# Altium schematic symbol library Capacitors-0805-Ceramic.SchLib: 4 symbols
Pins are listed as number, name and electrical type; pins without a type are passive.

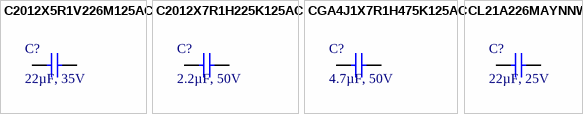
[diagram p0: symbols C2012X5R1V226M125AC to CL21A226MAYNNWE]

## C2012X5R1V226M125AC
designator C?, comment 22µF, 35V
CAP CER 22UF 35V X5R 0805; Manufacturer: TDK; Manufacturer Part Number: C2012X5R1V226M125AC; Manufacturer Lifecycle Status: PRODUCTION; Dielectric Material: Ceramic; Tolerance: 20%; Supplier: DigiKey; Supplier Part Number: 445-14428-1-ND; RoHS: Compliant; Category: Ceramic Capacitors; Stock: 581767; Pricing: 1=0.57, 10=0.348, 50=0.2628, 100=0.2364, 500=0.19204, 1000=0.17833 (USD); Value: 22µF; Case/Package: 0805; Case Code (Imperial): 0805; Case Code (Metric): 2012; China RoHS: Compliant; Dielectric: X5R; Height: 1.25mm; Lead Free: Lead Free; Length: 2mm; Lifecycle Status: Production; Material: Ceramic; Max Length: 2.2mm; Max Operating Temperature: 85°C; Max Width: 1.45mm; Min Length: 1.8mm; Min Operating Temperature: -55°C; Min Width: 1.05mm; Mounting Technology: Surface Mount; Number of Terminals: 2; REACH SVHC: Yes; Schedule B: 8532240020, 8532240020|8532240020|8532240020|8532240020|8532240020; Termination: SMD/SMT; Voltage Rating: 35V; Voltage Rating (DC): 35V; Weight: 5.499807mg; Width: 1.25mm; ComponentLink1URL: https://datasheet.octopart.com:443/C2012X5R1V226M125AC-TDK-datasheet-175423548.pdf?src-supplier=TME; ComponentLink1Description: https://datasheet.octopart.com:443/C2012X5R1V226M125AC-TDK-datasheet-175423548.pdf?src-supplier=TME; ComponentLink2URL: https://datasheet.octopart.com:443/C2012X5R1V226M125AC-TDK-datasheet-182135025.pdf?src-supplier=TME; ComponentLink2Description: https://datasheet.octopart.com:443/C2012X5R1V226M125AC-TDK-datasheet-182135025.pdf?src-supplier=TME; ComponentLink3URL: https://datasheet.octopart.com:443/C2012X5R1V226M125AC-TDK-datasheet-159617022.pdf?src-supplier=TME; ComponentLink3Description: https://datasheet.octopart.com:443/C2012X5R1V226M125AC-TDK-datasheet-159617022.pdf?src-supplier=TME; ComponentLink4URL: https://datasheet.octopart.com:443/C2012X5R1V226M125AC-TDK-datasheet-68298673.pdf?src-supplier=Upverter; ComponentLink4Description: https://datasheet.octopart.com:443/C2012X5R1V226M125AC-TDK-datasheet-68298673.pdf?src-supplier=Upverter; ComponentLink5URL: https://datasheet.octopart.com:443/C2012X5R1V226M125AC-TDK-datasheet-151546523.pdf?src-supplier=ODG+(Origin+Data+Global); ComponentLink5Description: https://datasheet.octopart.com:443/C2012X5R1V226M125AC-TDK-datasheet-151546523.pdf?src-supplier=ODG+(Origin+Data+Global); ComponentLink6URL: https://datasheet.octopart.com:443/C2012X5R1V226M125AC-TDK-datasheet-82475248.pdf?src-supplier=Newark; ComponentLink6Description: https://datasheet.octopart.com:443/C2012X5R1V226M125AC-TDK-datasheet-82475248.pdf?src-supplier=Newark; ComponentLink7URL: https://datasheet.octopart.com/C2012X5R1V226M125AC-TDK-datasheet-41194876.pdf; ComponentLink7Description: https://datasheet.octopart.com/C2012X5R1V226M125AC-TDK-datasheet-41194876.pdf; ComponentLink8URL: https://datasheet.octopart.com/C-Series-Ceramic-Chip-Capacitors-TDK-datasheet-family-84.pdf; ComponentLink8Description: https://datasheet.octopart.com/C-Series-Ceramic-Chip-Capacitors-TDK-datasheet-family-84.pdf; ComponentLink9URL: https://datasheet.octopart.com:443/C2012X5R1V226M125AC-TDK-datasheet-158983655.pdf?src-supplier=Farnell; ComponentLink9Description: https://datasheet.octopart.com:443/C2012X5R1V226M125AC-TDK-datasheet-158983655.pdf?src-supplier=Farnell; ComponentLink10URL: https://datasheet.octopart.com:443/C2012X5R1V226M125AC-TDK-datasheet-25352837.pdf?src-supplier=Future+Electronics; ComponentLink10Description: https://datasheet.octopart.com:443/C2012X5R1V226M125AC-TDK-datasheet-25352837.pdf?src-supplier=Future+Electronics; ComponentLink11URL: https://datasheet.octopart.com:443/C2012X5R1V226M125AC-TDK-datasheet-23766614.pdf?src-supplier=Future+Electronics; ComponentLink11Description: https://datasheet.octopart.com:443/C2012X5R1V226M125AC-TDK-datasheet-23766614.pdf?src-supplier=Future+Electronics; ComponentLink12URL: http://sigma.octopart.com:80/rohs_certificate/C-Series-Ceramic-Chip-Capacitors-TDK-family-108.pdf?src-supplier=Compliance+Statements; ComponentLink12Description: http://sigma.octopart.com:80/rohs_certificate/C-Series-Ceramic-Chip-Capacitors-TDK-family-108.pdf?src-supplier=Compliance+Statements
footprint CAP-CER-0805
pins: 1, 2

## C2012X7R1H225K125AC
designator C?, comment 2.2µF, 50V
CAP CER 2.2UF 50V X7R 0805; Manufacturer: TDK; Manufacturer Part Number: C2012X7R1H225K125AC; Manufacturer Lifecycle Status: PRODUCTION; Description: 50V 2.2uF X7R 卤10% 0805 Multilayer Ceramic Capacitors MLCC - SMD/SMT ROHS; Dielectric Material: Ceramic; Tolerance: 10%; Supplier: DigiKey; Supplier Part Number: 445-5968-1-ND; RoHS: Compliant; Category: Ceramic Capacitors; Stock: 753294; Pricing: 1=0.48, 10=0.293, 50=0.2188, 100=0.1961, 500=0.15784, 1000=0.14601 (USD); Value: 2.2µF; Case/Package: 0805; Case Code (Imperial): 0805; Case Code (Metric): 2012; China RoHS: Compliant; Composition: Ceramic; Contact Plating: Tin; Depth: 1.25mm; Dielectric: X7R; Height: 1.25mm; Lead Free: Lead Free; Length: 2mm; Lifecycle Status: Production; Material: Ceramic; Max Length: 2.2mm; Max Operating Temperature: 125°C; Max Width: 1.45mm; Min Length: 1.8mm; Min Operating Temperature: -55°C; Min Width: 1.05mm; Mounting Technology: Surface Mount; Number of Terminals: 2; Radiation Hardening: No; REACH SVHC: Yes; Schedule B: 8532240020, 8532240020|8532240020|8532240020|8532240020|8532240020|8532240020|8532240020|8532240020|8532240020|8532240020|8532240020|8532240020|8532240020|8532240020|8532240020|8532240020|8532240020|8532240020|8532240020|8532240020|8532240020|8532240020|8532240020|85; Termination: SMD/SMT; Voltage: 50V; Voltage Rating: 50V; Voltage Rating (DC): 50V; Weight: 5.499807mg; Width: 1.25mm; ComponentLink1URL: https://datasheet.octopart.com:443/C2012X7R1H225K125AC-TDK-datasheet-175423548.pdf?src-supplier=TME; ComponentLink1Description: https://datasheet.octopart.com:443/C2012X7R1H225K125AC-TDK-datasheet-175423548.pdf?src-supplier=TME; ComponentLink2URL: https://datasheet.octopart.com:443/C2012X7R1H225K125AC-TDK-datasheet-182135025.pdf?src-supplier=TME; ComponentLink2Description: https://datasheet.octopart.com:443/C2012X7R1H225K125AC-TDK-datasheet-182135025.pdf?src-supplier=TME; ComponentLink3URL: https://datasheet.octopart.com:443/C2012X7R1H225K125AC-TDK-datasheet-159617022.pdf?src-supplier=TME; ComponentLink3Description: https://datasheet.octopart.com:443/C2012X7R1H225K125AC-TDK-datasheet-159617022.pdf?src-supplier=TME; ComponentLink4URL: https://datasheet.octopart.com:443/C2012X7R1H225K125AC-TDK-datasheet-151546523.pdf?src-supplier=TDK; ComponentLink4Description: https://datasheet.octopart.com:443/C2012X7R1H225K125AC-TDK-datasheet-151546523.pdf?src-supplier=TDK; ComponentLink5URL: https://datasheet.octopart.com/C2012X7R1H225K125AC-TDK-datasheet-41194876.pdf; ComponentLink5Description: https://datasheet.octopart.com/C2012X7R1H225K125AC-TDK-datasheet-41194876.pdf; ComponentLink6URL: https://datasheet.octopart.com/C-Series-Ceramic-Chip-Capacitors-TDK-datasheet-family-84.pdf; ComponentLink6Description: https://datasheet.octopart.com/C-Series-Ceramic-Chip-Capacitors-TDK-datasheet-family-84.pdf; ComponentLink7URL: https://datasheet.octopart.com:443/C2012X7R1H225K125AC-TDK-datasheet-82475248.pdf?src-supplier=Newark; ComponentLink7Description: https://datasheet.octopart.com:443/C2012X7R1H225K125AC-TDK-datasheet-82475248.pdf?src-supplier=Newark; ComponentLink8URL: https://datasheet.octopart.com:443/C2012X7R1H225K125AC-TDK-datasheet-13444418.pdf?src-supplier=Newark; ComponentLink8Description: https://datasheet.octopart.com:443/C2012X7R1H225K125AC-TDK-datasheet-13444418.pdf?src-supplier=Newark; ComponentLink9URL: https://datasheet.octopart.com:443/C2012X7R1H225K125AC-TDK-datasheet-23766614.pdf?src-supplier=Newark; ComponentLink9Description: https://datasheet.octopart.com:443/C2012X7R1H225K125AC-TDK-datasheet-23766614.pdf?src-supplier=Newark; ComponentLink10URL: https://datasheet.octopart.com:443/C2012X7R1H225K125AC-TDK-datasheet-41169347.pdf?src-supplier=Farnell; ComponentLink10Description: https://datasheet.octopart.com:443/C2012X7R1H225K125AC-TDK-datasheet-41169347.pdf?src-supplier=Farnell; ComponentLink11URL: https://datasheet.octopart.com:443/C2012X7R1H225K125AC-TDK-datasheet-158983655.pdf?src-supplier=Farnell; ComponentLink11Description: https://datasheet.octopart.com:443/C2012X7R1H225K125AC-TDK-datasheet-158983655.pdf?src-supplier=Farnell; ComponentLink12URL: https://datasheet.octopart.com:443/C2012X7R1H225K125AC-TDK-datasheet-14433597.pdf?src-supplier=Future+Electronics; ComponentLink12Description: https://datasheet.octopart.com:443/C2012X7R1H225K125AC-TDK-datasheet-14433597.pdf?src-supplier=Future+Electronics; ComponentLink13URL: http://sigma.octopart.com:80/rohs_certificate/C-Series-Ceramic-Chip-Capacitors-TDK-family-108.pdf?src-supplier=Compliance+Statements; ComponentLink13Description: http://sigma.octopart.com:80/rohs_certificate/C-Series-Ceramic-Chip-Capacitors-TDK-family-108.pdf?src-supplier=Compliance+Statements
footprint CAP-CER-0805
pins: 1, 2

## CGA4J1X7R1H475K125AC
designator C?, comment 4.7µF, 50V
CAP CER 4.7UF 50V X7R 0805; Manufacturer: TDK; Manufacturer Part Number: CGA4J1X7R1H475K125AC; Supplier: Digikey; Supplier Part Number: 445-181404-1-ND; RoHS: Yes; Category: Ceramic Capacitors; Stock: 257949; Pricing: 1=0.53, 10=0.323, 100=0.2178, 1000=0.16333 (USD); ComponentLink1URL: https://datasheet.ciiva.com:443/pdfs/VipMasterIC/IC/TDKC/TDKC-S-A0008953915/TDKC-S-A0008953915-1.pdf?src-supplier=IHS+Markit; ComponentLink1Description: https://datasheet.ciiva.com:443/pdfs/VipMasterIC/IC/TDKC/TDKC-S-A0008953915/TDKC-S-A0008953915-1.pdf?src-supplier=IHS+Markit; ComponentLink2URL: https://product.tdk.com/info/en/catalog/datasheets/mlcc_automotive_general_en.pdf?src-supplier=Digikey; ComponentLink2Description: https://product.tdk.com/info/en/catalog/datasheets/mlcc_automotive_general_en.pdf?src-supplier=Digikey; ComponentLink3URL: https://product.tdk.com/info/en/catalog/datasheets/mlcc_automotive_general_en.pdf?ref_disty=digikey&src-supplier=Digikey; ComponentLink3Description: https://product.tdk.com/info/en/catalog/datasheets/mlcc_automotive_general_en.pdf?ref_disty=digikey&src-supplier=Digikey; ComponentLink4URL: https://datasheet.octopart.com/CGA4J1X7R1H475K125AC-TDK-datasheet-138890726.pdf?src-supplier=Future+Electronics; ComponentLink4Description: https://datasheet.octopart.com/CGA4J1X7R1H475K125AC-TDK-datasheet-138890726.pdf?src-supplier=Future+Electronics; ComponentLink5URL: https://datasheet.octopart.com/CGA4J1X7R1H475K125AC-TDK-datasheet-165583812.pdf?src-supplier=TME; ComponentLink5Description: https://datasheet.octopart.com/CGA4J1X7R1H475K125AC-TDK-datasheet-165583812.pdf?src-supplier=TME; Value: 4.7µF
footprint CAP-CER-0805
pins: 1, 2

## CL21A226MAYNNWE
designator C?, comment 22µF, 25V
CAP CER 22UF 25V X5R 0805; Manufacturer: Samsung Electro-Mechanics; Manufacturer Part Number: CL21A226MAYNNWE; Dielectric Material: Ceramic; Tolerance: 20%; Supplier: DigiKey; Supplier Part Number: 1276-CL21A226MAYNNWECT-ND; RoHS: Compliant; Category: Ceramic Capacitors; Stock: 11531; Pricing: 1=0.28, 10=0.166, 50=0.1204, 100=0.1065, 500=0.08304, 1000=0.07581 (USD); Value: 22µF; Height: 1.25mm; Length: 2mm; Lifecycle Status: Production; Max Operating Temperature: 85°C; Min Operating Temperature: -55°C; Mounting Technology: Surface Mount; Number of Terminals: 2; REACH SVHC: Yes; Voltage Rating (DC): 25V; Width: 1.25mm; ComponentLink1URL: https://datasheet.octopart.com:443/CL21A226MAYNNWE-Samsung-Electro-Mechanics-datasheet-163747747.pdf?src-supplier=Future+Electronics; ComponentLink1Description: https://datasheet.octopart.com:443/CL21A226MAYNNWE-Samsung-Electro-Mechanics-datasheet-163747747.pdf?src-supplier=Future+Electronics
footprint CAP-CER-0805
pins: 1, 2